# Altium integrated library AF_library.IntLib: 2 symbols
Pins are listed as number, name and electrical type; pins without a type are passive.

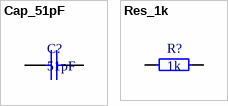
[diagram p0: symbols Cap_51pF to Res_1k]

## Cap_51pF
designator C?, comment 51pF
51pF NPO 50В 5%; Manufacturer: Murata Manufacturing; Part Number: GRM2165C1H510JZ01D; Type: Capacitor; ComponentLink1Description: ChipDip; ComponentLink1URL: https://www.chipdip.ru/product/grm2165c1h510j
footprint 0603 Resistor
pins: 1, 2

## Res_1k
designator R?, comment 1k
0.125W 0603 1k 5%; Manufacturer: Taiwan; Part Number: RC0603JR-071KL; ComponentLink1Description: ChipDip; ComponentLink1URL: https://www.chipdip.ru/product0/10149; Type: Resistor
footprint 0603 Resistor
pins: 1, 2